# Altium schematic symbol library Memory.SchLib: 3 symbols
Pins are listed as number, name and electrical type; pins without a type are passive.

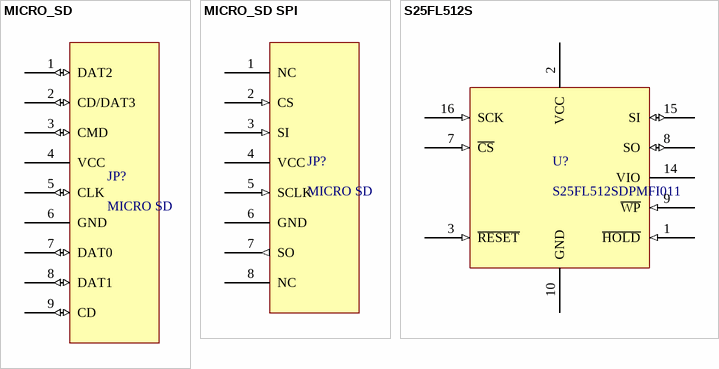
[diagram p0: symbols MICRO_SD to S25FL512S]

## MICRO_SD
designator JP?, comment MICRO SD
MOLEX - 49225-0821 - CONNECTOR, MICRO SD, PUSH/PUSH, 8; Manufacturer: MOLEX; Supplier: Farnell; Manufacturer Part Number: 49225-0821; Supplier Part Number: 1366700
footprint MICRO_SD
pins: 1 DAT2 (io), 2 CD/DAT3 (io), 3 CMD (io), 4 VCC (power), 5 CLK (io), 6 GND (power), 7 DAT0 (io), 8 DAT1 (io), 9 CD (io)

## MICRO_SD SPI
designator JP?, comment MICRO SD
MOLEX - 49225-0821 - CONNECTOR, MICRO SD, PUSH/PUSH, 8; Manufacturer: MOLEX; Supplier: Farnell; Manufacturer Part Number: 49225-0821; Supplier Part Number: 1366700
footprint MICRO_SD
pins: 1 NC, 2 CS (in), 3 SI (in), 4 VCC (power), 5 SCLK (in), 6 GND (power), 7 SO (out), 8 NC

## S25FL512S
designator U?, comment S25FL512SDPMFI011
SPANSION - S25FL512SDPMFI011 - MEMORY, FLASH, 512MB, 16SOIC; Manufacturer Part Number: S25FL512SDPMFI011; Supplier: Farnell; Manufacturer: SPANSION; Supplier Part Number: 2340551
footprint SO16NB
pins: 1 ~{HOLD} (in), 2 VCC (power), 3 ~{RESET} (in), 4 DNU hidden, 5 DNU hidden, 6 RFU hidden, 7 ~{CS} (in), 8 SO (io), 9 ~{WP} (in), 10 GND (power), 11 DNU hidden, 12 DNU hidden, 13 NC hidden, 14 VIO (power), 15 SI (io), 16 SCK (in)